# EAGLE library part DS1307N+ (library MouserUseful)
64 x 8, Serial, I2C Real-Time Clock Source: Datasheet
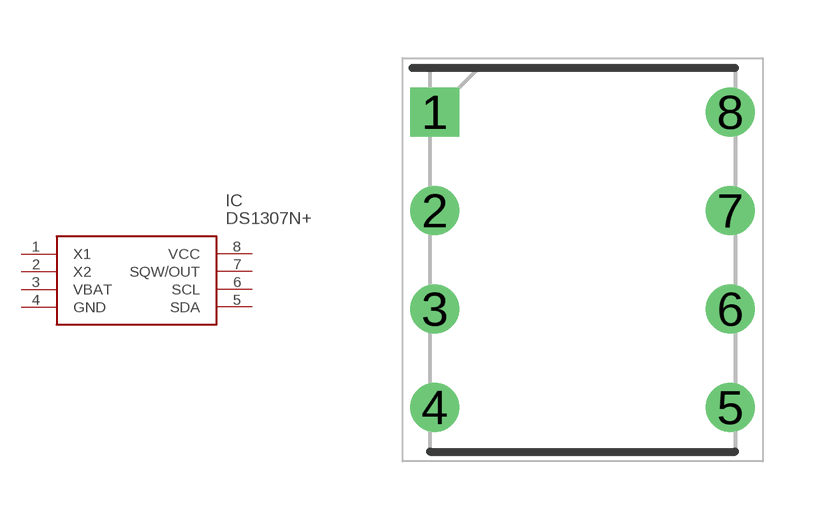
[diagram p9: symbol with the pads of DIP762W56P254L938H457Q8N; footprint DIP762W56P254L938H457Q8N]

Designator prefix IC

## DS1307N+ (DESCRIPTION: 64 x 8, Serial, I2C Real-Time Clock; HEIGHT: 4.572mm; MANUFACTURER_NAME: Maxim Integrated; MANUFACTURER_PART_NUMBER: DS1307N+; MOUSER_PART_NUMBER: 700-DS1307N; MOUSER_PRICE-STOCK: https://www.mouser.co.uk/ProductDetail/Maxim-Integrated/DS1307N%2b?qs=0Y9aZN%252BMVCUaDyAv0LKbtw%3D%3D)  [DIP762W56P254L938H457Q8N]
1  X1
2  X2
3  VBAT
4  GND  pwr
5  SDA
6  SCL
7  SQW/OUT  out
8  VCC  pwr

## Footprint DIP762W56P254L938H457Q8N (pad centres in mm)
8 PDIP
drill 0.76 pad 1.16 square: 1 -3.81,3.81
drill 0.76 pad 1.16: 2 -3.81,1.27; 3 -3.81,-1.27; 4 -3.81,-3.81; 5 3.81,-3.81; 6 3.81,-1.27; 7 3.81,1.27; 8 3.81,3.81